# Altium schematic symbol library Schlib1.SchLib: 16 symbols
Pins are listed as number, name and electrical type; pins without a type are passive.

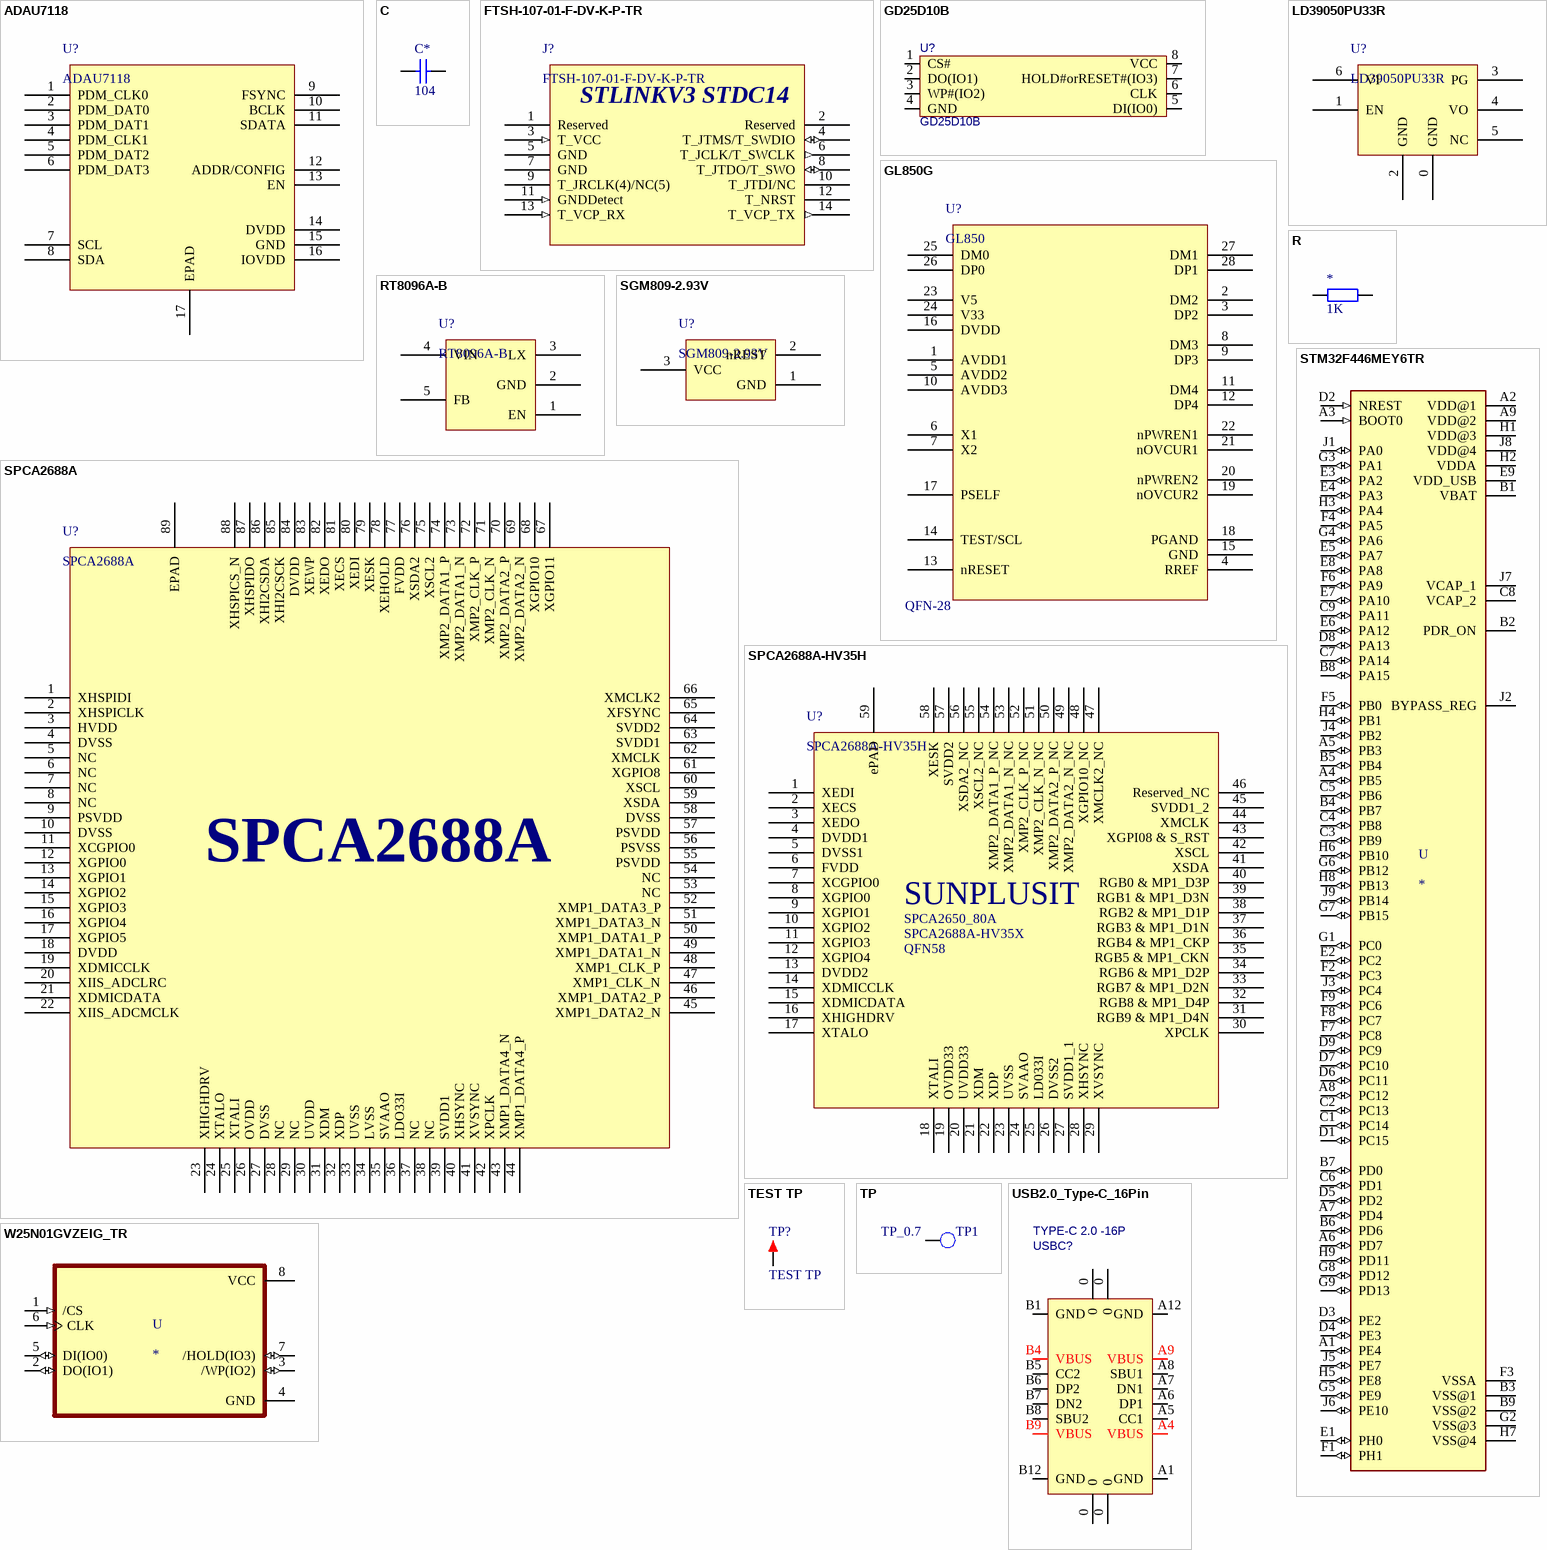
[diagram p0: symbols ADAU7118 to W25N01GVZEIG_TR]

## ADAU7118
designator U?
16-lead, 3 mm × 3 mm, 0.50 mm pitch LFCSP
pins: 1 PDM_CLK0, 2 PDM_DAT0, 3 PDM_DAT1, 4 PDM_CLK1, 5 PDM_DAT2, 6 PDM_DAT3, 7 SCL, 8 SDA, 9 FSYNC, 10 BCLK, 11 SDATA, 12 ADDR/CONFIG, 13 EN, 14 DVDD, 15 GND, 16 IOVDD, 17 EPAD

## C
designator C*, comment 104
贴片电容; BOM名称: 无极性贴片电容; 联系卖家，免费查找封装: 唯一出售店铺网址https://shop463601444.taobao.com
footprint C0201_L (无极性贴片电容)
footprint C0402_L (无极性贴片电容)
footprint C0603_L (无极性贴片电容)
footprint C0805_L (无极性贴片电容)
footprint C1206_L (无极性贴片电容)
footprint C1210_L (无极性贴片电容)
footprint C1808_L (无极性贴片电容)
footprint C1812_L (无极性贴片电容)
footprint C1825_L (无极性贴片电容)
footprint C2225_L (无极性贴片电容)
footprint C0201_M (无极性贴片电容)
footprint C0402_M (无极性贴片电容)
footprint C0603_M (无极性贴片电容)
footprint C0805_M (无极性贴片电容)
footprint C1206_M (无极性贴片电容)
footprint C1210_M (无极性贴片电容)
footprint C1808_M (无极性贴片电容)
footprint C1812_M (无极性贴片电容)
footprint C1825_M (无极性贴片电容)
footprint C2225_M (无极性贴片电容)
pins: 1, 2

## FTSH-107-01-F-DV-K-P-TR
designator J?
Samtec 14Pin 2x7 Header Connector. / STM32_STLINK_V3 Debug
pins: 1 Reserved, 2 Reserved, 3 T_VCC (in), 4 T_JTMS/T_SWDIO (io), 5 GND, 6 T_JCLK/T_SWCLK (out), 7 GND, 8  T_JTDO/T_SWO (io), 9 T_JRCLK(4)/NC(5), 10 T_JTDI/NC, 11 GNDDetect (in), 12 T_NRST, 13 T_VCP_RX (in), 14 T_VCP_TX (out)
text: STLINKV3 STDC14

## GD25D10B
designator U?
SPI FLASH SOP-8; 联系卖家，免费查找封装: 唯一出售店铺网址https://shop463601444.taobao.com; 联系卖家 免费技术支持: 封装库来自淘宝卖家ID：黄晶宝石
footprint SOIC-8W
footprint SOIC-8 (封装库来自淘宝卖家 ID：黄晶宝石)
pins: 1 CS#, 2 DO(IO1), 3 WP#(IO2), 4 GND, 5 DI(IO0), 6 CLK, 7 HOLD#orRESET#(IO3), 8 VCC

## GL850G
designator U?, comment GL850  Package: QFN-28
GL850 4 Port USB HUB QFN-28
pins: 1 AVDD1, 2 DM2, 3 DP2, 4 RREF, 5 AVDD2, 6 X1, 7 X2, 8 DM3, 9 DP3, 10 AVDD3, 11 DM4, 12 DP4, 13 nRESET, 14 TEST/SCL, 15 GND, 16 DVDD, 17 PSELF, 18 PGAND, 19 nOVCUR2, 20 nPWREN2, 21 nOVCUR1, 22 nPWREN1, 23 V5, 24 V33, 25 DM0, 26 DP0, 27 DM1, 28 DP1

## LD39050PU33R
designator U?
pins: 0 GND, 1 EN, 2 GND, 3 PG, 4 VO, 5 NC, 6 VI

## R
designator *, comment 1K
贴片电阻; 联系卖家，免费查找封装: 唯一出售店铺网址https://shop463601444.taobao.com; 封装库来自淘宝卖家ID：黄晶宝石: 让中国人都用上 黄晶宝石 的AD封装库; BOM名称: 贴片电阻
footprint R0201_L (1/20W贴片电阻)
footprint R0402_L (1/16W贴片电阻)
footprint R0603_L (1/10W贴片电阻)
footprint R0805_L (1/8W贴片电阻)
footprint R1206_L (1/4W贴片电阻)
footprint R1210_L (1/3W贴片电阻)
footprint R1812_L (1/2W贴片电阻)
footprint R2010_L (3/4W贴片电阻)
footprint R2512_L (1W贴片电阻)
footprint R0201_M (1/20W贴片电阻)
footprint R0402_M (1/16W贴片电阻)
footprint R0603_M (1/10W贴片电阻)
footprint R0805_M (1/8W贴片电阻)
footprint R1206_M (1/4W贴片电阻)
footprint R1210_M (1/3W贴片电阻)
footprint R1812_M (1/2W贴片电阻)
footprint R2010_M (3/4W贴片电阻)
footprint R2512_M (1W贴片电阻)
pins: 1, 2

## RT8096A-B
designator U?
RT8096A-B / SOT-23-5
pins: 1 EN, 2 GND, 3 LX, 4 VIN, 5 FB

## SGM809-2.93V
designator U?
SGM809-2.93V SOT-23-3/SOT-23 / Microprocessor Supervisory Circuit / Power on Reset
pins: 1 GND, 2 nREST, 3 VCC

## SPCA2688A
designator U?
SPCA2688A ISP IC / QFN88 10x10MM 0.4MM
pins: 1 XHSPIDI, 2 XHSPICLK, 3 HVDD, 4 DVSS, 5 NC, 6 NC, 7 NC, 8 NC, 9 PSVDD, 10 DVSS, 11 XCGPIO0, 12 XGPIO0, 13 XGPIO1, 14 XGPIO2, 15 XGPIO3, 16 XGPIO4, 17 XGPIO5, 18 DVDD, 19 XDMICCLK, 20 XIIS_ADCLRC, 21 XDMICDATA, 22 XIIS_ADCMCLK, 23 XHIGHDRV, 24 XTALO, 25 XTALI, 26 OVDD, 27 DVSS, 28 NC, 29 NC, 30 UVDD, 31 XDM, 32 XDP, 33 UVSS, 34 LVSS, 35 SVAAO, 36 LDO33I, 37 NC, 38 NC, 39 SVDD1, 40 XHSYNC, 41 XVSYNC, 42 XPCLK, 43 XMP1_DATA4_N, 44 XMP1_DATA4_P, 45 XMP1_DATA2_N, 46 XMP1_DATA2_P, 47 XMP1_CLK_N, 48 XMP1_CLK_P, 49 XMP1_DATA1_N, 50 XMP1_DATA1_P, 51 XMP1_DATA3_N, 52 XMP1_DATA3_P, 53 NC, 54 NC, 55 PSVDD, 56 PSVSS, 57 PSVDD, 58 DVSS, 59 XSDA, 60 XSCL, 61 XGPIO8, 62 XMCLK, 63 SVDD1, 64 SVDD2, 65 XFSYNC, 66 XMCLK2, 67 XGPIO11, 68 XGPIO10, 69 XMP2_DATA2_N, 70 XMP2_DATA2_P, 71 XMP2_CLK_N, 72 XMP2_CLK_P, 73 XMP2_DATA1_N, 74 XMP2_DATA1_P, 75 XSCL2, 76 XSDA2, 77 FVDD, 78 XEHOLD, 79 XESK, 80 XEDI, 81 XECS, 82 XEDO, 83 XEWP, 84 DVDD, 85 XHI2CSCK, 86 XHI2CSDA, 87 XHSPIDO, 88 XHSPICS_N, 89 EPAD

## SPCA2688A-HV35H
designator U?
SPCA2688A-HV35H ISP IC / QFN58 0.4MM
pins: 1 XEDI, 2 XECS, 3 XEDO, 4 DVDD1, 5 DVSS1, 6 FVDD, 7 XCGPIO0, 8 XGPIO0, 9 XGPIO1, 10 XGPIO2, 11 XGPIO3, 12 XGPIO4, 13 DVDD2, 14 XDMICCLK, 15 XDMICDATA, 16 XHIGHDRV, 17 XTALO, 18 XTALI, 19 OVDD33, 20 UVDD33, 21 XDM, 22 XDP, 23 UVSS, 24 SVAAO, 25 LD033I, 26 DVSS2, 27 SVDD1_1, 28 XHSYNC, 29 XVSYNC, 30 XPCLK, 31 RGB9 & MP1_D4N, 32 RGB8 & MP1_D4P, 33 RGB7 & MP1_D2N, 34 RGB6 & MP1_D2P, 35 RGB5 & MP1_CKN, 36 RGB4 & MP1_CKP, 37 RGB3 & MP1_D1N, 38 RGB2 & MP1_D1P, 39 RGB1 & MP1_D3N, 40 RGB0 & MP1_D3P, 41 XSDA, 42 XSCL, 43 XGPI08 & S_RST, 44 XMCLK, 45 SVDD1_2, 46 Reserved_NC, 47 XMCLK2_NC, 48 XGPIO10_NC, 49 XMP2_DATA2_N_NC, 50 XMP2_DATA2_P_NC, 51 XMP2_CLK_N_NC, 52 XMP2_CLK_P_NC, 53 XMP2_DATA1_N_NC, 54 XMP2_DATA1_P_NC, 55 XSCL2_NC, 56 XSDA2_NC, 57 SVDD2, 58 XESK, 59 ePAD
text: SUNPLUSIT; SPCA2650_80A; SPCA2688A-HV35X; QFN58

## STM32F446MEY6TR
designator U
ARMÂ® CortexÂ®-M4 STM32F4 Microcontroller IC 32-Bit 180MHz 512KB _512K x 8_ FLASH 81-WLCSP _3.80x3.69_; MP: STM32F446MEY6TR; MF: STMicroelectronics; Package: WLCSP-81 STMicroelectronics; SnapEDA_Link: https://www.snapeda.com/parts/STM32F446MEY6TR/STMicroelectronics/view-part/378075/?ref=snap; Price: None; Value: *; Availability: Unavailable
footprint BGA81C40P9X9_368X383X60
pins: A1 PE4 (io), A2 VDD@1 (power), A3 BOOT0 (in), A4 PB5 (io), A5 PB3 (io), A6 PD7 (io), A7 PD4 (io), A8 PC12 (io), A9 VDD@2 (power), B1 VBAT (power), B2 PDR_ON (power), B3 VSS@1 (power), B4 PB7 (io), B5 PB4 (io), B6 PD6 (io), B7 PD0 (io), B8 PA15 (io), B9 VSS@2 (power), C1 PC14 (io), C2 PC13 (io), C3 PB9 (io), C4 PB8 (io), C5 PB6 (io), C6 PD1 (io), C7 PA14 (io), C8 VCAP_2 (power), C9 PA11 (io), D1 PC15 (io), D2 NREST (in), D3 PE2 (io), D4 PE3 (io), D5 PD2 (io), D6 PC11 (io), D7 PC10 (io), D8 PA13 (io), D9 PC9 (io), E1 PH0 (io), E2 PC2 (io), E3 PA2 (io), E4 PA3 (io), E5 PA7 (io), E6 PA12 (io), E7 PA10 (io), E8 PA8 (io), E9 VDD_USB (power), F1 PH1 (io), F2 PC3 (io), F3 VSSA (power), F4 PA5 (io), F5 PB0 (io), F6 PA9 (io), F7 PC8 (io), F8 PC7 (io), F9 PC6 (io), G1 PC0 (io), G2 VSS@3 (power), G3 PA1 (io), G4 PA6 (io), G5 PE9 (io), G6 PB12 (io), G7 PB15 (io), G8 PD12 (io), G9 PD13 (io), H1 VDD@3 (power), H2 VDDA (power), H3 PA4 (io), H4 PB1 (io), H5 PE8 (io), H6 PB10 (io), H7 VSS@4 (power), H8 PB13 (io), H9 PD11 (io), J1 PA0 (io), J2 BYPASS_REG, J3 PC4 (io), J4 PB2 (io), J5 PE7 (io), J6 PE10 (io), J7 VCAP_1 (power), J8 VDD@4 (power), J9 PB14 (io)

## TEST TP
designator TP?
测试环; 联系卖家，免费查找封装: 唯一出售店铺网址https://shop463601444.taobao.com; 封装库来自淘宝卖家ID：黄晶宝石: 其他店铺购入均为盗版假冒封装库，请立即申请退款; BOM名称: 测试环
footprint TEST TP1.4_B (蓝色，测试环)
footprint TEST TP1.4_R (红色，测试环)
footprint TEST TP1.4_G (绿色，测试环)
footprint TEST TP1.4_W (白色，测试环)
footprint TEST TP1.4_Y (黄色，测试环)
footprint TEST TP1.4_BK (黑色，测试环)
pins: 1

## TP
designator TP1, comment TP_0.7  (no BOM)
Test Point 0.7mm; PCB Footprint: TP_0R50; RK PN: TESTPOINT_0R5; Priority: A; Part Type: TP; Created by: JJJ
footprint TP_0R50
footprint TP_0R70
pins: 1

## USB2.0_Type-C_16Pin
designator USBC?, comment TYPE-C 2.0 -16P
USB2.0_Type-C_16Pin母座; 联系卖家 免费查找封装: 唯一出售店铺网址https://shop463601444.taobao.com; 联系卖家 免费技术支持: 封装库来自淘宝卖家ID：黄晶宝石
footprint USB-C-SMD_16P (封装库来自淘宝ID:黄晶宝石)
pins: 0, 0, 0, 0, A1 GND, A4 VBUS, A5 CC1, A6 DP1, A7 DN1, A8 SBU1, A9 VBUS, A12 GND, B1 GND, B4 VBUS, B5 CC2, B6 DP2, B7 DN2, B8 SBU2, B9 VBUS, B12 GND

## W25N01GVZEIG_TR
designator U
FLASH - NAND Memory IC 1Gb _128M x 8_ SPI 104MHz 8-WSON _8x6_; MP: W25N01GVZEIG TR; MF: Winbond Electronics; Price: None; Package: WSON-8 Winbond; Value: *; Availability: Unavailable; SnapEDA_Link: https://www.snapeda.com/parts/W25N01GVZEIG%20TR/Winbond%20Electronics/view-part/1101444/?ref=snap
footprint SON127P800X600X80-9N
pins: 1 /CS (in), 2 DO(IO1) (io), 3 /WP(IO2) (io), 4 GND (power), 5 DI(IO0) (io), 6 CLK (in), 7 /HOLD(IO3) (io), 8 VCC (power)